# Altium schematic symbol library WE-SHC.SchLib: 139 symbols (part 1 of 3)
Pins are listed as number, name and electrical type; pins without a type are passive.

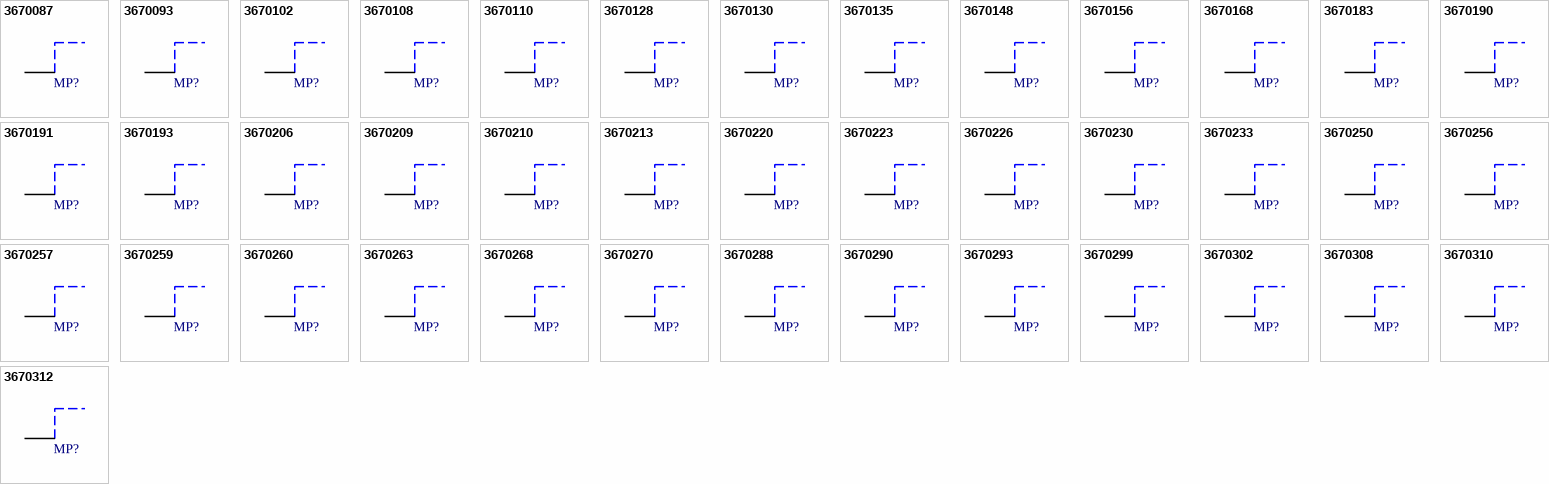
[diagram p0: symbols 3670087 to 3670312]

## 3670087
designator MP?  (value not drawn)
WE-SHC Shielding Cabinet, SMT Frame Seamless, Tin Plated, Tray, 8.7x6.3x3mm; Manufacturer: Wurth Elektronik; Base Material: Steel; ComponentLink1Description: Website Link; ComponentLink1URL: https://www.we-online.com/redexpert/article/3670087?ad; ComponentLink2Description: Datasheet Link; ComponentLink2URL: https://www.we-online.com/redexpert/spec/3670087?ad; Manufacturer Part Number: 3670087; Category: EMC Shielding; Match Code: WE-SHC; Mount: Surface Mount; Operating Temperature Max: 125°C; Operating Temperature Min: -40°C; Packaging: Tray; Length: 8.7mm; Width: 6.3mm; Height: 3mm; Plating: Tin Plated; Type: SMT Frame Seamless
footprint 3670087
pins: 1

## 3670093
designator MP?  (value not drawn)
WE-SHC Shielding Cabinet, SMT Frame Seamless, Tin Plated, Tray, 9.3x9.3x5mm; Manufacturer: Wurth Elektronik; Base Material: Steel; ComponentLink1Description: Website Link; ComponentLink1URL: https://www.we-online.com/redexpert/article/3670093?ad; ComponentLink2Description: Datasheet Link; ComponentLink2URL: https://www.we-online.com/redexpert/spec/3670093?ad; Manufacturer Part Number: 3670093; Category: EMC Shielding; Match Code: WE-SHC; Mount: Surface Mount; Operating Temperature Max: 125°C; Operating Temperature Min: -40°C; Packaging: Tray; Length: 9.3mm; Width: 9.3mm; Height: 5mm; Plating: Tin Plated; Type: SMT Frame Seamless
footprint 3670093
pins: 1

## 3670102
designator MP?  (value not drawn)
WE-SHC Shielding Cabinet, SMT Frame Seamless, Tin Plated, Tray, 10.2x6x3mm; Manufacturer: Wurth Elektronik; Base Material: Steel; ComponentLink1Description: Website Link; ComponentLink1URL: https://www.we-online.com/redexpert/article/3670102?ad; ComponentLink2Description: Datasheet Link; ComponentLink2URL: https://www.we-online.com/redexpert/spec/3670102?ad; Manufacturer Part Number: 3670102; Category: EMC Shielding; Match Code: WE-SHC; Mount: Surface Mount; Operating Temperature Max: 125°C; Operating Temperature Min: -40°C; Packaging: Tray; Length: 10.2mm; Width: 6mm; Height: 3mm; Plating: Tin Plated; Type: SMT Frame Seamless
footprint 3670102
pins: 1

## 3670108
designator MP?  (value not drawn)
WE-SHC Shielding Cabinet, SMT Frame Seamless, Tin Plated, Tray, 10.8x7.4x2mm; Manufacturer: Wurth Elektronik; Base Material: Steel; ComponentLink1Description: Website Link; ComponentLink1URL: https://www.we-online.com/redexpert/article/3670108?ad; ComponentLink2Description: Datasheet Link; ComponentLink2URL: https://www.we-online.com/redexpert/spec/3670108?ad; Manufacturer Part Number: 3670108; Category: EMC Shielding; Match Code: WE-SHC; Mount: Surface Mount; Operating Temperature Max: 125°C; Operating Temperature Min: -40°C; Packaging: Tray; Length: 10.8mm; Width: 7.4mm; Height: 2mm; Plating: Tin Plated; Type: SMT Frame Seamless
footprint 3670108
pins: 1

## 3670110
designator MP?  (value not drawn)
WE-SHC Shielding Cabinet, SMT Frame Seamless, Tin Plated, Tray, 11x11x2.8mm; Manufacturer: Wurth Elektronik; Base Material: Steel; ComponentLink1Description: Website Link; ComponentLink1URL: https://www.we-online.com/redexpert/article/3670110?ad; ComponentLink2Description: Datasheet Link; ComponentLink2URL: https://www.we-online.com/redexpert/spec/3670110?ad; Manufacturer Part Number: 3670110; Category: EMC Shielding; Match Code: WE-SHC; Mount: Surface Mount; Operating Temperature Max: 125°C; Operating Temperature Min: -40°C; Packaging: Tray; Length: 11mm; Width: 11mm; Height: 2.8mm; Plating: Tin Plated; Type: SMT Frame Seamless
footprint 3670110
pins: 1

## 3670128
designator MP?  (value not drawn)
WE-SHC Shielding Cabinet, SMT Frame Seamless, Tin Plated, Tray, 12.8x12.3x7.5mm; Manufacturer: Wurth Elektronik; Base Material: Steel; ComponentLink1Description: Website Link; ComponentLink1URL: https://www.we-online.com/redexpert/article/3670128?ad; ComponentLink2Description: Datasheet Link; ComponentLink2URL: https://www.we-online.com/redexpert/spec/3670128?ad; Manufacturer Part Number: 3670128; Category: EMC Shielding; Match Code: WE-SHC; Mount: Surface Mount; Operating Temperature Max: 125°C; Operating Temperature Min: -40°C; Packaging: Tray; Length: 12.8mm; Width: 12.3mm; Height: 7.5mm; Plating: Tin Plated; Type: SMT Frame Seamless
footprint 3670128
pins: 1

## 3670130
designator MP?  (value not drawn)
WE-SHC Shielding Cabinet, SMT Frame Seamless, Tin Plated, Tray, 13x13x5mm; Manufacturer: Wurth Elektronik; Base Material: Steel; ComponentLink1Description: Website Link; ComponentLink1URL: https://www.we-online.com/redexpert/article/3670130?ad; ComponentLink2Description: Datasheet Link; ComponentLink2URL: https://www.we-online.com/redexpert/spec/3670130?ad; Manufacturer Part Number: 3670130; Category: EMC Shielding; Match Code: WE-SHC; Mount: Surface Mount; Operating Temperature Max: 125°C; Operating Temperature Min: -40°C; Packaging: Tray; Length: 13mm; Width: 13mm; Height: 5mm; Plating: Tin Plated; Type: SMT Frame Seamless
footprint 3670130
pins: 1

## 3670135
designator MP?  (value not drawn)
WE-SHC Shielding Cabinet, SMT Frame Seamless, Tin Plated, Tray, 13.5x13.5x5mm; Manufacturer: Wurth Elektronik; Base Material: Steel; ComponentLink1Description: Website Link; ComponentLink1URL: https://www.we-online.com/redexpert/article/3670135?ad; ComponentLink2Description: Datasheet Link; ComponentLink2URL: https://www.we-online.com/redexpert/spec/3670135?ad; Manufacturer Part Number: 3670135; Category: EMC Shielding; Match Code: WE-SHC; Mount: Surface Mount; Operating Temperature Max: 125°C; Operating Temperature Min: -40°C; Packaging: Tray; Length: 13.5mm; Width: 13.5mm; Height: 5mm; Plating: Tin Plated; Type: SMT Frame Seamless
footprint 3670135
pins: 1

## 3670148
designator MP?  (value not drawn)
WE-SHC Shielding Cabinet, SMT Frame Seamless, Tin Plated, Tray, 14.8x8.9x2mm; Manufacturer: Wurth Elektronik; Base Material: Steel; ComponentLink1Description: Website Link; ComponentLink1URL: https://www.we-online.com/redexpert/article/3670148?ad; ComponentLink2Description: Datasheet Link; ComponentLink2URL: https://www.we-online.com/redexpert/spec/3670148?ad; Manufacturer Part Number: 3670148; Category: EMC Shielding; Match Code: WE-SHC; Mount: Surface Mount; Operating Temperature Max: 125°C; Operating Temperature Min: -40°C; Packaging: Tray; Length: 14.8mm; Width: 8.9mm; Height: 2mm; Plating: Tin Plated; Type: SMT Frame Seamless
footprint 3670148
pins: 1

## 3670156
designator MP?  (value not drawn)
WE-SHC Shielding Cabinet, SMT Frame Seamless, Tin Plated, Tray, 15.6x10.6x3mm; Manufacturer: Wurth Elektronik; Base Material: Steel; ComponentLink1Description: Website Link; ComponentLink1URL: https://www.we-online.com/redexpert/article/3670156?ad; ComponentLink2Description: Datasheet Link; ComponentLink2URL: https://www.we-online.com/redexpert/spec/3670156?ad; Manufacturer Part Number: 3670156; Category: EMC Shielding; Match Code: WE-SHC; Mount: Surface Mount; Operating Temperature Max: 125°C; Operating Temperature Min: -40°C; Packaging: Tray; Length: 15.6mm; Width: 10.6mm; Height: 3mm; Plating: Tin Plated; Type: SMT Frame Seamless
footprint 3670156
pins: 1

## 3670168
designator MP?  (value not drawn)
WE-SHC Shielding Cabinet, SMT Frame Seamless, Tin Plated, Tray, 16.8x13.5x5mm; Manufacturer: Wurth Elektronik; Base Material: Steel; ComponentLink1Description: Website Link; ComponentLink1URL: https://www.we-online.com/redexpert/article/3670168?ad; ComponentLink2Description: Datasheet Link; ComponentLink2URL: https://www.we-online.com/redexpert/spec/3670168?ad; Manufacturer Part Number: 3670168; Category: EMC Shielding; Match Code: WE-SHC; Mount: Surface Mount; Operating Temperature Max: 125°C; Operating Temperature Min: -40°C; Packaging: Tray; Length: 16.8mm; Width: 13.5mm; Height: 5mm; Plating: Tin Plated; Type: SMT Frame Seamless
footprint 3670168
pins: 1

## 3670183
designator MP?  (value not drawn)
WE-SHC Shielding Cabinet, SMT Frame Seamless, Tin Plated, Tray, 18.3x10.5x3mm; Manufacturer: Wurth Elektronik; Base Material: Steel; ComponentLink1Description: Website Link; ComponentLink1URL: https://www.we-online.com/redexpert/article/3670183?ad; ComponentLink2Description: Datasheet Link; ComponentLink2URL: https://www.we-online.com/redexpert/spec/3670183?ad; Manufacturer Part Number: 3670183; Category: EMC Shielding; Match Code: WE-SHC; Mount: Surface Mount; Operating Temperature Max: 125°C; Operating Temperature Min: -40°C; Packaging: Tray; Length: 18.3mm; Width: 10.5mm; Height: 3mm; Plating: Tin Plated; Type: SMT Frame Seamless
footprint 3670183
pins: 1

## 3670190
designator MP?  (value not drawn)
WE-SHC Shielding Cabinet, SMT Frame Seamless, Tin Plated, Tray, 19x13.9x2mm; Manufacturer: Wurth Elektronik; Base Material: Steel; ComponentLink1Description: Website Link; ComponentLink1URL: https://www.we-online.com/redexpert/article/3670190?ad; ComponentLink2Description: Datasheet Link; ComponentLink2URL: https://www.we-online.com/redexpert/spec/3670190?ad; Manufacturer Part Number: 3670190; Category: EMC Shielding; Match Code: WE-SHC; Mount: Surface Mount; Operating Temperature Max: 125°C; Operating Temperature Min: -40°C; Packaging: Tray; Length: 19mm; Width: 13.9mm; Height: 2mm; Plating: Tin Plated; Type: SMT Frame Seamless
footprint 3670190
pins: 1

## 3670191
designator MP?  (value not drawn)
WE-SHC Shielding Cabinet, SMT Frame Seamless, Tin Plated, Tray, 19.1x18.2x5mm; Manufacturer: Wurth Elektronik; Base Material: Steel; ComponentLink1Description: Website Link; ComponentLink1URL: https://www.we-online.com/redexpert/article/3670191?ad; ComponentLink2Description: Datasheet Link; ComponentLink2URL: https://www.we-online.com/redexpert/spec/3670191?ad; Manufacturer Part Number: 3670191; Category: EMC Shielding; Match Code: WE-SHC; Mount: Surface Mount; Operating Temperature Max: 125°C; Operating Temperature Min: -40°C; Packaging: Tray; Length: 19.1mm; Width: 18.2mm; Height: 5mm; Plating: Tin Plated; Type: SMT Frame Seamless
footprint 3670191
pins: 1

## 3670193
designator MP?  (value not drawn)
WE-SHC Shielding Cabinet, SMT Frame Seamless, Tin Plated, Tray, 19.3x10.5x3mm; Manufacturer: Wurth Elektronik; Base Material: Steel; ComponentLink1Description: Website Link; ComponentLink1URL: https://www.we-online.com/redexpert/article/3670193?ad; ComponentLink2Description: Datasheet Link; ComponentLink2URL: https://www.we-online.com/redexpert/spec/3670193?ad; Manufacturer Part Number: 3670193; Category: EMC Shielding; Match Code: WE-SHC; Mount: Surface Mount; Operating Temperature Max: 125°C; Operating Temperature Min: -40°C; Packaging: Tray; Length: 19.3mm; Width: 10.5mm; Height: 3mm; Plating: Tin Plated; Type: SMT Frame Seamless
footprint 3670193
pins: 1

## 3670206
designator MP?  (value not drawn)
WE-SHC Shielding Cabinet, SMT Frame Seamless, Tin Plated, Tray, 20.6x17.8x3mm; Manufacturer: Wurth Elektronik; Base Material: Steel; ComponentLink1Description: Website Link; ComponentLink1URL: https://www.we-online.com/redexpert/article/3670206?ad; ComponentLink2Description: Datasheet Link; ComponentLink2URL: https://www.we-online.com/redexpert/spec/3670206?ad; Manufacturer Part Number: 3670206; Category: EMC Shielding; Match Code: WE-SHC; Mount: Surface Mount; Operating Temperature Max: 125°C; Operating Temperature Min: -40°C; Packaging: Tray; Length: 20.6mm; Width: 17.8mm; Height: 3mm; Plating: Tin Plated; Type: SMT Frame Seamless
footprint 3670206
pins: 1

## 3670209
designator MP?  (value not drawn)
WE-SHC Shielding Cabinet, SMT Frame Seamless, Tin Plated, Tray, 20.9x15.3x1.7mm; Manufacturer: Wurth Elektronik; Base Material: Steel; ComponentLink1Description: Website Link; ComponentLink1URL: https://www.we-online.com/redexpert/article/3670209?ad; ComponentLink2Description: Datasheet Link; ComponentLink2URL: https://www.we-online.com/redexpert/spec/3670209?ad; Manufacturer Part Number: 3670209; Category: EMC Shielding; Match Code: WE-SHC; Mount: Surface Mount; Operating Temperature Max: 125°C; Operating Temperature Min: -40°C; Packaging: Tray; Length: 20.9mm; Width: 15.3mm; Height: 1.7mm; Plating: Tin Plated; Type: SMT Frame Seamless
footprint 3670209
pins: 1

## 3670210
designator MP?  (value not drawn)
WE-SHC Shielding Cabinet, SMT Frame Seamless, Tin Plated, Tray, 21x12x5mm; Manufacturer: Wurth Elektronik; Base Material: Steel; ComponentLink1Description: Website Link; ComponentLink1URL: https://www.we-online.com/redexpert/article/3670210?ad; ComponentLink2Description: Datasheet Link; ComponentLink2URL: https://www.we-online.com/redexpert/spec/3670210?ad; Manufacturer Part Number: 3670210; Category: EMC Shielding; Match Code: WE-SHC; Mount: Surface Mount; Operating Temperature Max: 125°C; Operating Temperature Min: -40°C; Packaging: Tray; Length: 21mm; Width: 12mm; Height: 5mm; Plating: Tin Plated; Type: SMT Frame Seamless
footprint 3670210
pins: 1

## 3670213
designator MP?  (value not drawn)
WE-SHC Shielding Cabinet, SMT Frame Seamless, Tin Plated, Tray, 21.3x19.9x2.9mm; Manufacturer: Wurth Elektronik; Base Material: Steel; ComponentLink1Description: Website Link; ComponentLink1URL: https://www.we-online.com/redexpert/article/3670213?ad; ComponentLink2Description: Datasheet Link; ComponentLink2URL: https://www.we-online.com/redexpert/spec/3670213?ad; Manufacturer Part Number: 3670213; Category: EMC Shielding; Match Code: WE-SHC; Mount: Surface Mount; Operating Temperature Max: 125°C; Operating Temperature Min: -40°C; Packaging: Tray; Length: 21.3mm; Width: 19.9mm; Height: 2.9mm; Plating: Tin Plated; Type: SMT Frame Seamless
footprint 3670213
pins: 1

## 3670220
designator MP?  (value not drawn)
WE-SHC Shielding Cabinet, SMT Frame Seamless, Tin Plated, Tray, 22x19.3x3.3mm; Manufacturer: Wurth Elektronik; Base Material: Steel; ComponentLink1Description: Website Link; ComponentLink1URL: https://www.we-online.com/redexpert/article/3670220?ad; ComponentLink2Description: Datasheet Link; ComponentLink2URL: https://www.we-online.com/redexpert/spec/3670220?ad; Manufacturer Part Number: 3670220; Category: EMC Shielding; Match Code: WE-SHC; Mount: Surface Mount; Operating Temperature Max: 125°C; Operating Temperature Min: -40°C; Packaging: Tray; Length: 22mm; Width: 19.3mm; Height: 3.3mm; Plating: Tin Plated; Type: SMT Frame Seamless
footprint 3670220
pins: 1

## 3670223
designator MP?  (value not drawn)
WE-SHC Shielding Cabinet, SMT Frame Seamless, Tin Plated, Tray, 22.3x17.3x5mm; Manufacturer: Wurth Elektronik; Base Material: Steel; ComponentLink1Description: Website Link; ComponentLink1URL: https://www.we-online.com/redexpert/article/3670223?ad; ComponentLink2Description: Datasheet Link; ComponentLink2URL: https://www.we-online.com/redexpert/spec/3670223?ad; Manufacturer Part Number: 3670223; Category: EMC Shielding; Match Code: WE-SHC; Mount: Surface Mount; Operating Temperature Max: 125°C; Operating Temperature Min: -40°C; Packaging: Tray; Length: 22.3mm; Width: 17.3mm; Height: 5mm; Plating: Tin Plated; Type: SMT Frame Seamless
footprint 3670223
pins: 1

## 3670226
designator MP?  (value not drawn)
WE-SHC Shielding Cabinet, SMT Frame Seamless, Tin Plated, Tray, 22.6x17.1x2mm; Manufacturer: Wurth Elektronik; Base Material: Steel; ComponentLink1Description: Website Link; ComponentLink1URL: https://www.we-online.com/redexpert/article/3670226?ad; ComponentLink2Description: Datasheet Link; ComponentLink2URL: https://www.we-online.com/redexpert/spec/3670226?ad; Manufacturer Part Number: 3670226; Category: EMC Shielding; Match Code: WE-SHC; Mount: Surface Mount; Operating Temperature Max: 125°C; Operating Temperature Min: -40°C; Packaging: Tray; Length: 22.6mm; Width: 17.1mm; Height: 2mm; Plating: Tin Plated; Type: SMT Frame Seamless
footprint 3670226
pins: 1

## 3670230
designator MP?  (value not drawn)
WE-SHC Shielding Cabinet, SMT Frame Seamless, Tin Plated, Tray, 23x11.7x5mm; Manufacturer: Wurth Elektronik; Base Material: Steel; ComponentLink1Description: Website Link; ComponentLink1URL: https://www.we-online.com/redexpert/article/3670230?ad; ComponentLink2Description: Datasheet Link; ComponentLink2URL: https://www.we-online.com/redexpert/spec/3670230?ad; Manufacturer Part Number: 3670230; Category: EMC Shielding; Match Code: WE-SHC; Mount: Surface Mount; Operating Temperature Max: 125°C; Operating Temperature Min: -40°C; Packaging: Tray; Length: 23mm; Width: 11.7mm; Height: 5mm; Plating: Tin Plated; Type: SMT Frame Seamless
footprint 3670230
pins: 1

## 3670233
designator MP?  (value not drawn)
WE-SHC Shielding Cabinet, SMT Frame Seamless, Tin Plated, Tray, 23.3x17.5x5mm; Manufacturer: Wurth Elektronik; Base Material: Steel; ComponentLink1Description: Website Link; ComponentLink1URL: https://www.we-online.com/redexpert/article/3670233?ad; ComponentLink2Description: Datasheet Link; ComponentLink2URL: https://www.we-online.com/redexpert/spec/3670233?ad; Manufacturer Part Number: 3670233; Category: EMC Shielding; Match Code: WE-SHC; Mount: Surface Mount; Operating Temperature Max: 125°C; Operating Temperature Min: -40°C; Packaging: Tray; Length: 23.3mm; Width: 17.5mm; Height: 5mm; Plating: Tin Plated; Type: SMT Frame Seamless
footprint 3670233
pins: 1

## 3670250
designator MP?  (value not drawn)
WE-SHC Shielding Cabinet, SMT Frame Seamless, Tin Plated, Tray, 25x21x4mm; Manufacturer: Wurth Elektronik; Base Material: Steel; ComponentLink1Description: Website Link; ComponentLink1URL: https://www.we-online.com/redexpert/article/3670250?ad; ComponentLink2Description: Datasheet Link; ComponentLink2URL: https://www.we-online.com/redexpert/spec/3670250?ad; Manufacturer Part Number: 3670250; Category: EMC Shielding; Match Code: WE-SHC; Mount: Surface Mount; Operating Temperature Max: 125°C; Operating Temperature Min: -40°C; Packaging: Tray; Length: 25mm; Width: 21mm; Height: 4mm; Plating: Tin Plated; Type: SMT Frame Seamless
footprint 3670250
pins: 1

## 3670256
designator MP?  (value not drawn)
WE-SHC Shielding Cabinet, SMT Frame Seamless, Tin Plated, Tray, 25.6x15.5x2.3mm; Manufacturer: Wurth Elektronik; Base Material: Steel; ComponentLink1Description: Website Link; ComponentLink1URL: https://www.we-online.com/redexpert/article/3670256?ad; ComponentLink2Description: Datasheet Link; ComponentLink2URL: https://www.we-online.com/redexpert/spec/3670256?ad; Manufacturer Part Number: 3670256; Category: EMC Shielding; Match Code: WE-SHC; Mount: Surface Mount; Operating Temperature Max: 125°C; Operating Temperature Min: -40°C; Packaging: Tray; Length: 25.6mm; Width: 15.5mm; Height: 2.3mm; Plating: Tin Plated; Type: SMT Frame Seamless
footprint 3670256
pins: 1

## 3670257
designator MP?  (value not drawn)
WE-SHC Shielding Cabinet, SMT Frame Seamless, Tin Plated, Tray, 25.7x25.7x6.5mm; Manufacturer: Wurth Elektronik; Base Material: Steel; ComponentLink1Description: Website Link; ComponentLink1URL: https://www.we-online.com/redexpert/article/3670257?ad; ComponentLink2Description: Datasheet Link; ComponentLink2URL: https://www.we-online.com/redexpert/spec/3670257?ad; Manufacturer Part Number: 3670257; Category: EMC Shielding; Match Code: WE-SHC; Mount: Surface Mount; Operating Temperature Max: 125°C; Operating Temperature Min: -40°C; Packaging: Tray; Length: 25.7mm; Width: 25.7mm; Height: 6.5mm; Plating: Tin Plated; Type: SMT Frame Seamless
footprint 3670257
pins: 1

## 3670259
designator MP?  (value not drawn)
WE-SHC Shielding Cabinet, SMT Frame Seamless, Tin Plated, Tray, 25.9x25.9x3mm; Manufacturer: Wurth Elektronik; Base Material: Steel; ComponentLink1Description: Website Link; ComponentLink1URL: https://www.we-online.com/redexpert/article/3670259?ad; ComponentLink2Description: Datasheet Link; ComponentLink2URL: https://www.we-online.com/redexpert/spec/3670259?ad; Manufacturer Part Number: 3670259; Category: EMC Shielding; Match Code: WE-SHC; Mount: Surface Mount; Operating Temperature Max: 125°C; Operating Temperature Min: -40°C; Packaging: Tray; Length: 25.9mm; Width: 25.9mm; Height: 3mm; Plating: Tin Plated; Type: SMT Frame Seamless
footprint 3670259
pins: 1

## 3670260
designator MP?  (value not drawn)
WE-SHC Shielding Cabinet, SMT Frame Seamless, Tin Plated, Tray, 26x23x7.8mm; Manufacturer: Wurth Elektronik; Base Material: Steel; ComponentLink1Description: Website Link; ComponentLink1URL: https://www.we-online.com/redexpert/article/3670260?ad; ComponentLink2Description: Datasheet Link; ComponentLink2URL: https://www.we-online.com/redexpert/spec/3670260?ad; Manufacturer Part Number: 3670260; Category: EMC Shielding; Match Code: WE-SHC; Mount: Surface Mount; Operating Temperature Max: 125°C; Operating Temperature Min: -40°C; Packaging: Tray; Length: 26mm; Width: 23mm; Height: 7.8mm; Plating: Tin Plated; Type: SMT Frame Seamless
footprint 3670260
pins: 1

## 3670263
designator MP?  (value not drawn)
WE-SHC Shielding Cabinet, SMT Frame Seamless, Tin Plated, Tray, 26.3x16.8x4.5mm; Manufacturer: Wurth Elektronik; Base Material: Steel; ComponentLink1Description: Website Link; ComponentLink1URL: https://www.we-online.com/redexpert/article/3670263?ad; ComponentLink2Description: Datasheet Link; ComponentLink2URL: https://www.we-online.com/redexpert/spec/3670263?ad; Manufacturer Part Number: 3670263; Category: EMC Shielding; Match Code: WE-SHC; Mount: Surface Mount; Operating Temperature Max: 125°C; Operating Temperature Min: -40°C; Packaging: Tray; Length: 26.3mm; Width: 16.8mm; Height: 4.5mm; Plating: Tin Plated; Type: SMT Frame Seamless
footprint 3670263
pins: 1

## 3670268
designator MP?  (value not drawn)
WE-SHC Shielding Cabinet, SMT Frame Seamless, Tin Plated, Tray, 26.8x15.6x2.5mm; Manufacturer: Wurth Elektronik; Base Material: Steel; ComponentLink1Description: Website Link; ComponentLink1URL: https://www.we-online.com/redexpert/article/3670268?ad; ComponentLink2Description: Datasheet Link; ComponentLink2URL: https://www.we-online.com/redexpert/spec/3670268?ad; Manufacturer Part Number: 3670268; Category: EMC Shielding; Match Code: WE-SHC; Mount: Surface Mount; Operating Temperature Max: 125°C; Operating Temperature Min: -40°C; Packaging: Tray; Length: 26.8mm; Width: 15.6mm; Height: 2.5mm; Plating: Tin Plated; Type: SMT Frame Seamless
footprint 3670268
pins: 1

## 3670270
designator MP?  (value not drawn)
WE-SHC Shielding Cabinet, SMT Frame Seamless, Tin Plated, Tray, 27x20x6mm; Manufacturer: Wurth Elektronik; Base Material: Steel; ComponentLink1Description: Website Link; ComponentLink1URL: https://www.we-online.com/redexpert/article/3670270?ad; ComponentLink2Description: Datasheet Link; ComponentLink2URL: https://www.we-online.com/redexpert/spec/3670270?ad; Manufacturer Part Number: 3670270; Category: EMC Shielding; Match Code: WE-SHC; Mount: Surface Mount; Operating Temperature Max: 125°C; Operating Temperature Min: -40°C; Packaging: Tray; Length: 27mm; Width: 20mm; Height: 6mm; Plating: Tin Plated; Type: SMT Frame Seamless
footprint 3670270
pins: 1

## 3670288
designator MP?  (value not drawn)
WE-SHC Shielding Cabinet, SMT Frame Seamless, Tin Plated, Tray, 28.8x19.4x5mm; Manufacturer: Wurth Elektronik; Base Material: Steel; ComponentLink1Description: Website Link; ComponentLink1URL: https://www.we-online.com/redexpert/article/3670288?ad; ComponentLink2Description: Datasheet Link; ComponentLink2URL: https://www.we-online.com/redexpert/spec/3670288?ad; Manufacturer Part Number: 3670288; Category: EMC Shielding; Match Code: WE-SHC; Mount: Surface Mount; Operating Temperature Max: 125°C; Operating Temperature Min: -40°C; Packaging: Tray; Length: 28.8mm; Width: 19.4mm; Height: 5mm; Plating: Tin Plated; Type: SMT Frame Seamless
footprint 3670288
pins: 1

## 3670290
designator MP?  (value not drawn)
WE-SHC Shielding Cabinet, SMT Frame Seamless, Tin Plated, Tray, 29x26x3mm; Manufacturer: Wurth Elektronik; Base Material: Steel; ComponentLink1Description: Website Link; ComponentLink1URL: https://www.we-online.com/redexpert/article/3670290?ad; ComponentLink2Description: Datasheet Link; ComponentLink2URL: https://www.we-online.com/redexpert/spec/3670290?ad; Manufacturer Part Number: 3670290; Category: EMC Shielding; Match Code: WE-SHC; Mount: Surface Mount; Operating Temperature Max: 125°C; Operating Temperature Min: -40°C; Packaging: Tray; Length: 29mm; Width: 26mm; Height: 3mm; Plating: Tin Plated; Type: SMT Frame Seamless
footprint 3670290
pins: 1

## 3670293
designator MP?  (value not drawn)
WE-SHC Shielding Cabinet, SMT Frame Seamless, Tin Plated, Tray, 29.3x25.3x6.4mm; Manufacturer: Wurth Elektronik; Base Material: Steel; ComponentLink1Description: Website Link; ComponentLink1URL: https://www.we-online.com/redexpert/article/3670293?ad; ComponentLink2Description: Datasheet Link; ComponentLink2URL: https://www.we-online.com/redexpert/spec/3670293?ad; Manufacturer Part Number: 3670293; Category: EMC Shielding; Match Code: WE-SHC; Mount: Surface Mount; Operating Temperature Max: 125°C; Operating Temperature Min: -40°C; Packaging: Tray; Length: 29.3mm; Width: 25.3mm; Height: 6.4mm; Plating: Tin Plated; Type: SMT Frame Seamless
footprint 3670293
pins: 1

## 3670299
designator MP?  (value not drawn)
WE-SHC Shielding Cabinet, SMT Frame Seamless, Tin Plated, Tray, 30x24.4x3.5mm; Manufacturer: Wurth Elektronik; Base Material: Steel; ComponentLink1Description: Website Link; ComponentLink1URL: https://www.we-online.com/redexpert/article/3670299?ad; ComponentLink2Description: Datasheet Link; ComponentLink2URL: https://www.we-online.com/redexpert/spec/3670299?ad; Manufacturer Part Number: 3670299; Category: EMC Shielding; Match Code: WE-SHC; Mount: Surface Mount; Operating Temperature Max: 125°C; Operating Temperature Min: -40°C; Packaging: Tray; Length: 30mm; Width: 24.4mm; Height: 3.5mm; Plating: Tin Plated; Type: SMT Frame Seamless
footprint 3670299
pins: 1

## 3670302
designator MP?  (value not drawn)
WE-SHC Shielding Cabinet, SMT Frame Seamless, Tin Plated, Tray, 30.2x18.9x3mm; Manufacturer: Wurth Elektronik; Base Material: Steel; ComponentLink1Description: Website Link; ComponentLink1URL: https://www.we-online.com/redexpert/article/3670302?ad; ComponentLink2Description: Datasheet Link; ComponentLink2URL: https://www.we-online.com/redexpert/spec/3670302?ad; Manufacturer Part Number: 3670302; Category: EMC Shielding; Match Code: WE-SHC; Mount: Surface Mount; Operating Temperature Max: 125°C; Operating Temperature Min: -40°C; Packaging: Tray; Length: 30.2mm; Width: 18.9mm; Height: 3mm; Plating: Tin Plated; Type: SMT Frame Seamless
footprint 3670302
pins: 1

## 3670308
designator MP?  (value not drawn)
WE-SHC Shielding Cabinet, SMT Frame Seamless, Tin Plated, Tray, 30.8x17.8x4.4mm; Manufacturer: Wurth Elektronik; Base Material: Steel; ComponentLink1Description: Website Link; ComponentLink1URL: https://www.we-online.com/redexpert/article/3670308?ad; ComponentLink2Description: Datasheet Link; ComponentLink2URL: https://www.we-online.com/redexpert/spec/3670308?ad; Manufacturer Part Number: 3670308; Category: EMC Shielding; Match Code: WE-SHC; Mount: Surface Mount; Operating Temperature Max: 125°C; Operating Temperature Min: -40°C; Packaging: Tray; Length: 30.8mm; Width: 17.8mm; Height: 4.4mm; Plating: Tin Plated; Type: SMT Frame Seamless
footprint 3670308
pins: 1

## 3670310
designator MP?  (value not drawn)
WE-SHC Shielding Cabinet, SMT Frame Seamless, Tin Plated, Tray, 31x17.1x3mm; Manufacturer: Wurth Elektronik; Base Material: Steel; ComponentLink1Description: Website Link; ComponentLink1URL: https://www.we-online.com/redexpert/article/3670310?ad; ComponentLink2Description: Datasheet Link; ComponentLink2URL: https://www.we-online.com/redexpert/spec/3670310?ad; Manufacturer Part Number: 3670310; Category: EMC Shielding; Match Code: WE-SHC; Mount: Surface Mount; Operating Temperature Max: 125°C; Operating Temperature Min: -40°C; Packaging: Tray; Length: 31mm; Width: 17.1mm; Height: 3mm; Plating: Tin Plated; Type: SMT Frame Seamless
footprint 3670310
pins: 1

## 3670312
designator MP?  (value not drawn)
WE-SHC Shielding Cabinet, SMT Frame Seamless, Tin Plated, Tray, 31.2x30x5mm; Manufacturer: Wurth Elektronik; Base Material: Steel; ComponentLink1Description: Website Link; ComponentLink1URL: https://www.we-online.com/redexpert/article/3670312?ad; ComponentLink2Description: Datasheet Link; ComponentLink2URL: https://www.we-online.com/redexpert/spec/3670312?ad; Manufacturer Part Number: 3670312; Category: EMC Shielding; Match Code: WE-SHC; Mount: Surface Mount; Operating Temperature Max: 125°C; Operating Temperature Min: -40°C; Packaging: Tray; Length: 31.2mm; Width: 30mm; Height: 5mm; Plating: Tin Plated; Type: SMT Frame Seamless
footprint 3670312
pins: 1

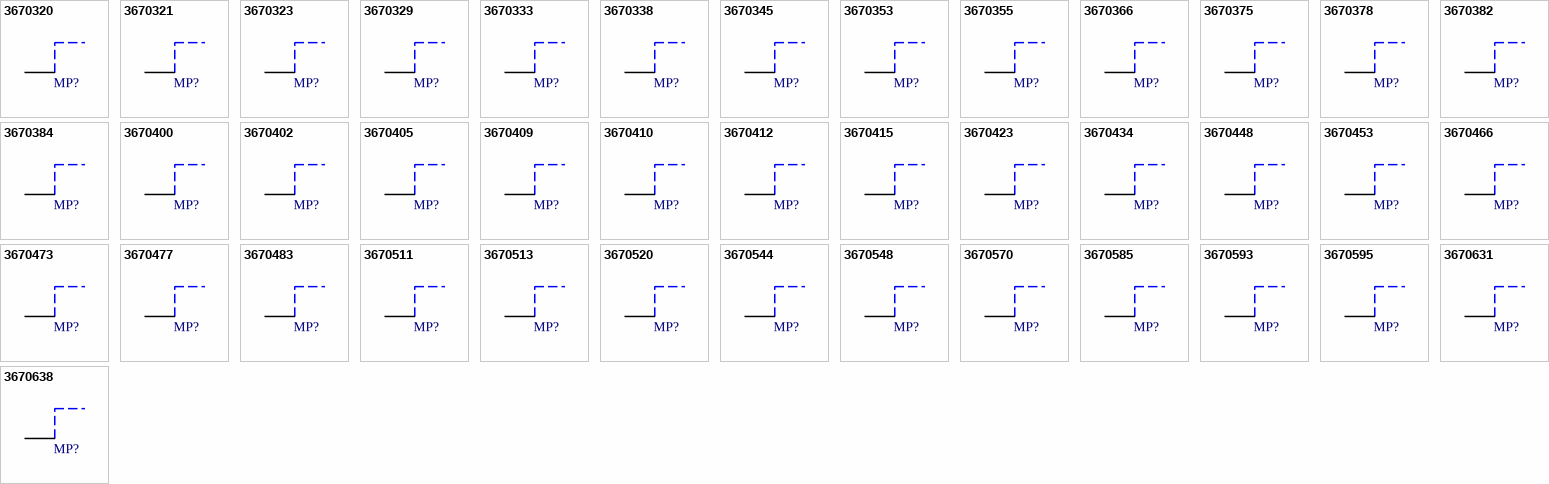
[diagram p1: symbols 3670320 to 3670638]

## 3670320
designator MP?  (value not drawn)
WE-SHC Shielding Cabinet, SMT Frame Seamless, Tin Plated, Tray, 32x11.3x2mm; Manufacturer: Wurth Elektronik; Base Material: Steel; ComponentLink1Description: Website Link; ComponentLink1URL: https://www.we-online.com/redexpert/article/3670320?ad; ComponentLink2Description: Datasheet Link; ComponentLink2URL: https://www.we-online.com/redexpert/spec/3670320?ad; Manufacturer Part Number: 3670320; Category: EMC Shielding; Match Code: WE-SHC; Mount: Surface Mount; Operating Temperature Max: 125°C; Operating Temperature Min: -40°C; Packaging: Tray; Length: 32mm; Width: 11.3mm; Height: 2mm; Plating: Tin Plated; Type: SMT Frame Seamless
footprint 3670320
pins: 1

## 3670321
designator MP?  (value not drawn)
WE-SHC Shielding Cabinet, SMT Frame Seamless, Tin Plated, Tray, 32.1x16.6x2.5mm; Manufacturer: Wurth Elektronik; Base Material: Steel; ComponentLink1Description: Website Link; ComponentLink1URL: https://www.we-online.com/redexpert/article/3670321?ad; ComponentLink2Description: Datasheet Link; ComponentLink2URL: https://www.we-online.com/redexpert/spec/3670321?ad; Manufacturer Part Number: 3670321; Category: EMC Shielding; Match Code: WE-SHC; Mount: Surface Mount; Operating Temperature Max: 125°C; Operating Temperature Min: -40°C; Packaging: Tray; Length: 32.1mm; Width: 16.6mm; Height: 2.5mm; Plating: Tin Plated; Type: SMT Frame Seamless
footprint 3670321
pins: 1

## 3670323
designator MP?  (value not drawn)
WE-SHC Shielding Cabinet, SMT Frame Seamless, Tin Plated, Tray, 32.3x23.8x3.7mm; Manufacturer: Wurth Elektronik; Base Material: Steel; ComponentLink1Description: Website Link; ComponentLink1URL: https://www.we-online.com/redexpert/article/3670323?ad; ComponentLink2Description: Datasheet Link; ComponentLink2URL: https://www.we-online.com/redexpert/spec/3670323?ad; Manufacturer Part Number: 3670323; Category: EMC Shielding; Match Code: WE-SHC; Mount: Surface Mount; Operating Temperature Max: 125°C; Operating Temperature Min: -40°C; Packaging: Tray; Length: 32.3mm; Width: 23.8mm; Height: 3.7mm; Plating: Tin Plated; Type: SMT Frame Seamless
footprint 3670323
pins: 1

## 3670329
designator MP?  (value not drawn)
WE-SHC Shielding Cabinet, SMT Frame Seamless, Tin Plated, Tray, 32.9x20.7x2.5mm; Manufacturer: Wurth Elektronik; Base Material: Steel; ComponentLink1Description: Website Link; ComponentLink1URL: https://www.we-online.com/redexpert/article/3670329?ad; ComponentLink2Description: Datasheet Link; ComponentLink2URL: https://www.we-online.com/redexpert/spec/3670329?ad; Manufacturer Part Number: 3670329; Category: EMC Shielding; Match Code: WE-SHC; Mount: Surface Mount; Operating Temperature Max: 125°C; Operating Temperature Min: -40°C; Packaging: Tray; Length: 32.9mm; Width: 20.7mm; Height: 2.5mm; Plating: Tin Plated; Type: SMT Frame Seamless
footprint 3670329
pins: 1

## 3670333
designator MP?  (value not drawn)
WE-SHC Shielding Cabinet, SMT Frame Seamless, Tin Plated, Tray, 33.3x13.3x4.4mm; Manufacturer: Wurth Elektronik; Base Material: Steel; ComponentLink1Description: Website Link; ComponentLink1URL: https://www.we-online.com/redexpert/article/3670333?ad; ComponentLink2Description: Datasheet Link; ComponentLink2URL: https://www.we-online.com/redexpert/spec/3670333?ad; Manufacturer Part Number: 3670333; Category: EMC Shielding; Match Code: WE-SHC; Mount: Surface Mount; Operating Temperature Max: 125°C; Operating Temperature Min: -40°C; Packaging: Tray; Length: 33.3mm; Width: 13.3mm; Height: 4.4mm; Plating: Tin Plated; Type: SMT Frame Seamless
footprint 3670333
pins: 1

## 3670338
designator MP?  (value not drawn)
WE-SHC Shielding Cabinet, SMT Frame Seamless, Tin Plated, Tray, 33.8x30.3x3.3mm; Manufacturer: Wurth Elektronik; Base Material: Steel; ComponentLink1Description: Website Link; ComponentLink1URL: https://www.we-online.com/redexpert/article/3670338?ad; ComponentLink2Description: Datasheet Link; ComponentLink2URL: https://www.we-online.com/redexpert/spec/3670338?ad; Manufacturer Part Number: 3670338; Category: EMC Shielding; Match Code: WE-SHC; Mount: Surface Mount; Operating Temperature Max: 125°C; Operating Temperature Min: -40°C; Packaging: Tray; Length: 33.8mm; Width: 30.3mm; Height: 3.3mm; Plating: Tin Plated; Type: SMT Frame Seamless
footprint 3670338
pins: 1

## 3670345
designator MP?  (value not drawn)
WE-SHC Shielding Cabinet, SMT Frame Seamless, Tin Plated, Tray, 34.5x23.3x3.5mm; Manufacturer: Wurth Elektronik; Base Material: Steel; ComponentLink1Description: Website Link; ComponentLink1URL: https://www.we-online.com/redexpert/article/3670345?ad; ComponentLink2Description: Datasheet Link; ComponentLink2URL: https://www.we-online.com/redexpert/spec/3670345?ad; Manufacturer Part Number: 3670345; Category: EMC Shielding; Match Code: WE-SHC; Mount: Surface Mount; Operating Temperature Max: 125°C; Operating Temperature Min: -40°C; Packaging: Tray; Length: 34.5mm; Width: 23.3mm; Height: 3.5mm; Plating: Tin Plated; Type: SMT Frame Seamless
footprint 3670345
pins: 1

## 3670353
designator MP?  (value not drawn)
WE-SHC Shielding Cabinet, SMT Frame Seamless, Tin Plated, Tray, 35.3x20x6.4mm; Manufacturer: Wurth Elektronik; Base Material: Steel; ComponentLink1Description: Website Link; ComponentLink1URL: https://www.we-online.com/redexpert/article/3670353?ad; ComponentLink2Description: Datasheet Link; ComponentLink2URL: https://www.we-online.com/redexpert/spec/3670353?ad; Manufacturer Part Number: 3670353; Category: EMC Shielding; Match Code: WE-SHC; Mount: Surface Mount; Operating Temperature Max: 125°C; Operating Temperature Min: -40°C; Packaging: Tray; Length: 35.3mm; Width: 20mm; Height: 6.4mm; Plating: Tin Plated; Type: SMT Frame Seamless
footprint 3670353
pins: 1

## 3670355
designator MP?  (value not drawn)
WE-SHC Shielding Cabinet, SMT Frame Seamless, Tin Plated, Tray, 35.5x19x5.5mm; Manufacturer: Wurth Elektronik; Base Material: Steel; ComponentLink1Description: Website Link; ComponentLink1URL: https://www.we-online.com/redexpert/article/3670355?ad; ComponentLink2Description: Datasheet Link; ComponentLink2URL: https://www.we-online.com/redexpert/spec/3670355?ad; Manufacturer Part Number: 3670355; Category: EMC Shielding; Match Code: WE-SHC; Mount: Surface Mount; Operating Temperature Max: 125°C; Operating Temperature Min: -40°C; Packaging: Tray; Length: 35.5mm; Width: 19mm; Height: 5.5mm; Plating: Tin Plated; Type: SMT Frame Seamless
footprint 3670355
pins: 1

## 3670366
designator MP?  (value not drawn)
WE-SHC Shielding Cabinet, SMT Frame Seamless, Tin Plated, Tray, 36.6x34.1x3.3mm; Manufacturer: Wurth Elektronik; Base Material: Steel; ComponentLink1Description: Website Link; ComponentLink1URL: https://www.we-online.com/redexpert/article/3670366?ad; ComponentLink2Description: Datasheet Link; ComponentLink2URL: https://www.we-online.com/redexpert/spec/3670366?ad; Manufacturer Part Number: 3670366; Category: EMC Shielding; Match Code: WE-SHC; Mount: Surface Mount; Operating Temperature Max: 125°C; Operating Temperature Min: -40°C; Packaging: Tray; Length: 36.6mm; Width: 34.1mm; Height: 3.3mm; Plating: Tin Plated; Type: SMT Frame Seamless
footprint 3670366
pins: 1

## 3670375
designator MP?  (value not drawn)
WE-SHC Shielding Cabinet, SMT Frame Seamless, Tin Plated, Tray, 37.5x29.3x6.5mm; Manufacturer: Wurth Elektronik; Base Material: Steel; ComponentLink1Description: Website Link; ComponentLink1URL: https://www.we-online.com/redexpert/article/3670375?ad; ComponentLink2Description: Datasheet Link; ComponentLink2URL: https://www.we-online.com/redexpert/spec/3670375?ad; Manufacturer Part Number: 3670375; Category: EMC Shielding; Match Code: WE-SHC; Mount: Surface Mount; Operating Temperature Max: 125°C; Operating Temperature Min: -40°C; Packaging: Tray; Length: 37.5mm; Width: 29.3mm; Height: 6.5mm; Plating: Tin Plated; Type: SMT Frame Seamless
footprint 3670375
pins: 1

## 3670378
designator MP?  (value not drawn)
WE-SHC Shielding Cabinet, SMT Frame Seamless, Tin Plated, Tray, 37.8x21.6x3mm; Manufacturer: Wurth Elektronik; Base Material: Steel; ComponentLink1Description: Website Link; ComponentLink1URL: https://www.we-online.com/redexpert/article/3670378?ad; ComponentLink2Description: Datasheet Link; ComponentLink2URL: https://www.we-online.com/redexpert/spec/3670378?ad; Manufacturer Part Number: 3670378; Category: EMC Shielding; Match Code: WE-SHC; Mount: Surface Mount; Operating Temperature Max: 125°C; Operating Temperature Min: -40°C; Packaging: Tray; Length: 37.8mm; Width: 21.6mm; Height: 3mm; Plating: Tin Plated; Type: SMT Frame Seamless
footprint 3670378
pins: 1

## 3670382
designator MP?  (value not drawn)
WE-SHC Shielding Cabinet, SMT Frame Seamless, Tin Plated, Tray, 38.2x33.3x5mm; Manufacturer: Wurth Elektronik; Base Material: Steel; ComponentLink1Description: Website Link; ComponentLink1URL: https://www.we-online.com/redexpert/article/3670382?ad; ComponentLink2Description: Datasheet Link; ComponentLink2URL: https://www.we-online.com/redexpert/spec/3670382?ad; Manufacturer Part Number: 3670382; Category: EMC Shielding; Match Code: WE-SHC; Mount: Surface Mount; Operating Temperature Max: 125°C; Operating Temperature Min: -40°C; Packaging: Tray; Length: 38.2mm; Width: 33.3mm; Height: 5mm; Plating: Tin Plated; Type: SMT Frame Seamless
footprint 3670382
pins: 1

## 3670384
designator MP?  (value not drawn)
WE-SHC Shielding Cabinet, SMT Frame Seamless, Tin Plated, Tray, 38.4x37.6x11mm; Manufacturer: Wurth Elektronik; Base Material: Steel; ComponentLink1Description: Website Link; ComponentLink1URL: https://www.we-online.com/redexpert/article/3670384?ad; ComponentLink2Description: Datasheet Link; ComponentLink2URL: https://www.we-online.com/redexpert/spec/3670384?ad; Manufacturer Part Number: 3670384; Category: EMC Shielding; Match Code: WE-SHC; Mount: Surface Mount; Operating Temperature Max: 125°C; Operating Temperature Min: -40°C; Packaging: Tray; Length: 38.4mm; Width: 37.6mm; Height: 11mm; Plating: Tin Plated; Type: SMT Frame Seamless
footprint 3670384
pins: 1

## 3670400
designator MP?  (value not drawn)
WE-SHC Shielding Cabinet, SMT Frame Seamless, Tin Plated, Tray, 40x18.3x4mm; Manufacturer: Wurth Elektronik; Base Material: Steel; ComponentLink1Description: Website Link; ComponentLink1URL: https://www.we-online.com/redexpert/article/3670400?ad; ComponentLink2Description: Datasheet Link; ComponentLink2URL: https://www.we-online.com/redexpert/spec/3670400?ad; Manufacturer Part Number: 3670400; Category: EMC Shielding; Match Code: WE-SHC; Mount: Surface Mount; Operating Temperature Max: 125°C; Operating Temperature Min: -40°C; Packaging: Tray; Length: 40mm; Width: 18.3mm; Height: 4mm; Plating: Tin Plated; Type: SMT Frame Seamless
footprint 3670400
pins: 1

## 3670402
designator MP?  (value not drawn)
WE-SHC Shielding Cabinet, SMT Frame Seamless, Tin Plated, Tray, 40.2x34.6x5.3mm; Manufacturer: Wurth Elektronik; Base Material: Steel; ComponentLink1Description: Website Link; ComponentLink1URL: https://www.we-online.com/redexpert/article/3670402?ad; ComponentLink2Description: Datasheet Link; ComponentLink2URL: https://www.we-online.com/redexpert/spec/3670402?ad; Manufacturer Part Number: 3670402; Category: EMC Shielding; Match Code: WE-SHC; Mount: Surface Mount; Operating Temperature Max: 125°C; Operating Temperature Min: -40°C; Packaging: Tray; Length: 40.2mm; Width: 34.6mm; Height: 5.3mm; Plating: Tin Plated; Type: SMT Frame Seamless
footprint 3670402
pins: 1

## 3670405
designator MP?  (value not drawn)
WE-SHC Shielding Cabinet, SMT Frame Seamless, Tin Plated, Tray, 40.5x18.9x2.8mm; Manufacturer: Wurth Elektronik; Base Material: Steel; ComponentLink1Description: Website Link; ComponentLink1URL: https://www.we-online.com/redexpert/article/3670405?ad; ComponentLink2Description: Datasheet Link; ComponentLink2URL: https://www.we-online.com/redexpert/spec/3670405?ad; Manufacturer Part Number: 3670405; Category: EMC Shielding; Match Code: WE-SHC; Mount: Surface Mount; Operating Temperature Max: 125°C; Operating Temperature Min: -40°C; Packaging: Tray; Length: 40.5mm; Width: 18.9mm; Height: 2.8mm; Plating: Tin Plated; Type: SMT Frame Seamless
footprint 3670405
pins: 1

## 3670409
designator MP?  (value not drawn)
WE-SHC Shielding Cabinet, SMT Frame Seamless, Tin Plated, Tray, 40.9x21.5x2.5mm; Manufacturer: Wurth Elektronik; Base Material: Steel; ComponentLink1Description: Website Link; ComponentLink1URL: https://www.we-online.com/redexpert/article/3670409?ad; ComponentLink2Description: Datasheet Link; ComponentLink2URL: https://www.we-online.com/redexpert/spec/3670409?ad; Manufacturer Part Number: 3670409; Category: EMC Shielding; Match Code: WE-SHC; Mount: Surface Mount; Operating Temperature Max: 125°C; Operating Temperature Min: -40°C; Packaging: Tray; Length: 40.9mm; Width: 21.5mm; Height: 2.5mm; Plating: Tin Plated; Type: SMT Frame Seamless
footprint 3670409
pins: 1

## 3670410
designator MP?  (value not drawn)
WE-SHC Shielding Cabinet, SMT Frame Seamless, Tin Plated, Tray, 41x26.4x3.7mm; Manufacturer: Wurth Elektronik; Base Material: Steel; ComponentLink1Description: Website Link; ComponentLink1URL: https://www.we-online.com/redexpert/article/3670410?ad; ComponentLink2Description: Datasheet Link; ComponentLink2URL: https://www.we-online.com/redexpert/spec/3670410?ad; Manufacturer Part Number: 3670410; Category: EMC Shielding; Match Code: WE-SHC; Mount: Surface Mount; Operating Temperature Max: 125°C; Operating Temperature Min: -40°C; Packaging: Tray; Length: 41mm; Width: 26.4mm; Height: 3.7mm; Plating: Tin Plated; Type: SMT Frame Seamless
footprint 3670410
pins: 1

## 3670412
designator MP?  (value not drawn)
WE-SHC Shielding Cabinet, SMT Frame Seamless, Tin Plated, Tray, 41.2x13.6x5.1mm; Manufacturer: Wurth Elektronik; Base Material: Steel; ComponentLink1Description: Website Link; ComponentLink1URL: https://www.we-online.com/redexpert/article/3670412?ad; ComponentLink2Description: Datasheet Link; ComponentLink2URL: https://www.we-online.com/redexpert/spec/3670412?ad; Manufacturer Part Number: 3670412; Category: EMC Shielding; Match Code: WE-SHC; Mount: Surface Mount; Operating Temperature Max: 125°C; Operating Temperature Min: -40°C; Packaging: Tray; Length: 41.2mm; Width: 13.6mm; Height: 5.1mm; Plating: Tin Plated; Type: SMT Frame Seamless
footprint 3670412
pins: 1

## 3670415
designator MP?  (value not drawn)
WE-SHC Shielding Cabinet, SMT Frame Seamless, Tin Plated, Tray, 41.5x16.8x6.8mm; Manufacturer: Wurth Elektronik; Base Material: Steel; ComponentLink1Description: Website Link; ComponentLink1URL: https://www.we-online.com/redexpert/article/3670415?ad; ComponentLink2Description: Datasheet Link; ComponentLink2URL: https://www.we-online.com/redexpert/spec/3670415?ad; Manufacturer Part Number: 3670415; Category: EMC Shielding; Match Code: WE-SHC; Mount: Surface Mount; Operating Temperature Max: 125°C; Operating Temperature Min: -40°C; Packaging: Tray; Length: 41.5mm; Width: 16.8mm; Height: 6.8mm; Plating: Tin Plated; Type: SMT Frame Seamless
footprint 3670415
pins: 1

## 3670423
designator MP?  (value not drawn)
WE-SHC Shielding Cabinet, SMT Frame Seamless, Tin Plated, Tray, 42.3x15.3x4.4mm; Manufacturer: Wurth Elektronik; Base Material: Steel; ComponentLink1Description: Website Link; ComponentLink1URL: https://www.we-online.com/redexpert/article/3670423?ad; ComponentLink2Description: Datasheet Link; ComponentLink2URL: https://www.we-online.com/redexpert/spec/3670423?ad; Manufacturer Part Number: 3670423; Category: EMC Shielding; Match Code: WE-SHC; Mount: Surface Mount; Operating Temperature Max: 125°C; Operating Temperature Min: -40°C; Packaging: Tray; Length: 42.3mm; Width: 15.3mm; Height: 4.4mm; Plating: Tin Plated; Type: SMT Frame Seamless
footprint 3670423
pins: 1

## 3670434
designator MP?  (value not drawn)
WE-SHC Shielding Cabinet, SMT Frame Seamless, Tin Plated, Tray, 43.4x28.4x3.3mm; Manufacturer: Wurth Elektronik; Base Material: Steel; ComponentLink1Description: Website Link; ComponentLink1URL: https://www.we-online.com/redexpert/article/3670434?ad; ComponentLink2Description: Datasheet Link; ComponentLink2URL: https://www.we-online.com/redexpert/spec/3670434?ad; Manufacturer Part Number: 3670434; Category: EMC Shielding; Match Code: WE-SHC; Mount: Surface Mount; Operating Temperature Max: 125°C; Operating Temperature Min: -40°C; Packaging: Tray; Length: 43.4mm; Width: 28.4mm; Height: 3.3mm; Plating: Tin Plated; Type: SMT Frame Seamless
footprint 3670434
pins: 1

## 3670448
designator MP?  (value not drawn)
WE-SHC Shielding Cabinet, SMT Frame Seamless, Tin Plated, Tray, 44.8x18.2x3mm; Manufacturer: Wurth Elektronik; Base Material: Steel; ComponentLink1Description: Website Link; ComponentLink1URL: https://www.we-online.com/redexpert/article/3670448?ad; ComponentLink2Description: Datasheet Link; ComponentLink2URL: https://www.we-online.com/redexpert/spec/3670448?ad; Manufacturer Part Number: 3670448; Category: EMC Shielding; Match Code: WE-SHC; Mount: Surface Mount; Operating Temperature Max: 125°C; Operating Temperature Min: -40°C; Packaging: Tray; Length: 44.8mm; Width: 18.2mm; Height: 3mm; Plating: Tin Plated; Type: SMT Frame Seamless
footprint 3670448
pins: 1

## 3670453
designator MP?  (value not drawn)
WE-SHC Shielding Cabinet, SMT Frame Seamless, Tin Plated, Tray, 45.3x16.2x6mm; Manufacturer: Wurth Elektronik; Base Material: Steel; ComponentLink1Description: Website Link; ComponentLink1URL: https://www.we-online.com/redexpert/article/3670453?ad; ComponentLink2Description: Datasheet Link; ComponentLink2URL: https://www.we-online.com/redexpert/spec/3670453?ad; Manufacturer Part Number: 3670453; Category: EMC Shielding; Match Code: WE-SHC; Mount: Surface Mount; Operating Temperature Max: 125°C; Operating Temperature Min: -40°C; Packaging: Tray; Length: 45.3mm; Width: 16.2mm; Height: 6mm; Plating: Tin Plated; Type: SMT Frame Seamless
footprint 3670453
pins: 1

## 3670466
designator MP?  (value not drawn)
WE-SHC Shielding Cabinet, SMT Frame Seamless, Tin Plated, Tray, 46.6x17.3x5mm; Manufacturer: Wurth Elektronik; Base Material: Steel; ComponentLink1Description: Website Link; ComponentLink1URL: https://www.we-online.com/redexpert/article/3670466?ad; ComponentLink2Description: Datasheet Link; ComponentLink2URL: https://www.we-online.com/redexpert/spec/3670466?ad; Manufacturer Part Number: 3670466; Category: EMC Shielding; Match Code: WE-SHC; Mount: Surface Mount; Operating Temperature Max: 125°C; Operating Temperature Min: -40°C; Packaging: Tray; Length: 46.6mm; Width: 17.3mm; Height: 5mm; Plating: Tin Plated; Type: SMT Frame Seamless
footprint 3670466
pins: 1

## 3670473
designator MP?  (value not drawn)
WE-SHC Shielding Cabinet, SMT Frame Seamless, Tin Plated, Tray, 47.3x23.3x5.3mm; Manufacturer: Wurth Elektronik; Base Material: Steel; ComponentLink1Description: Website Link; ComponentLink1URL: https://www.we-online.com/redexpert/article/3670473?ad; ComponentLink2Description: Datasheet Link; ComponentLink2URL: https://www.we-online.com/redexpert/spec/3670473?ad; Manufacturer Part Number: 3670473; Category: EMC Shielding; Match Code: WE-SHC; Mount: Surface Mount; Operating Temperature Max: 125°C; Operating Temperature Min: -40°C; Packaging: Tray; Length: 47.3mm; Width: 23.3mm; Height: 5.3mm; Plating: Tin Plated; Type: SMT Frame Seamless
footprint 3670473
pins: 1

## 3670477
designator MP?  (value not drawn)
WE-SHC Shielding Cabinet, SMT Frame Seamless, Tin Plated, Tray, 47.7x18.2x4mm; Manufacturer: Wurth Elektronik; Base Material: Steel; ComponentLink1Description: Website Link; ComponentLink1URL: https://www.we-online.com/redexpert/article/3670477?ad; ComponentLink2Description: Datasheet Link; ComponentLink2URL: https://www.we-online.com/redexpert/spec/3670477?ad; Manufacturer Part Number: 3670477; Category: EMC Shielding; Match Code: WE-SHC; Mount: Surface Mount; Operating Temperature Max: 125°C; Operating Temperature Min: -40°C; Packaging: Tray; Length: 47.7mm; Width: 18.2mm; Height: 4mm; Plating: Tin Plated; Type: SMT Frame Seamless
footprint 3670477
pins: 1

## 3670483
designator MP?  (value not drawn)
WE-SHC Shielding Cabinet, SMT Frame Seamless, Tin Plated, Tray, 48.3x44.3x4.4mm; Manufacturer: Wurth Elektronik; Base Material: Steel; ComponentLink1Description: Website Link; ComponentLink1URL: https://www.we-online.com/redexpert/article/3670483?ad; ComponentLink2Description: Datasheet Link; ComponentLink2URL: https://www.we-online.com/redexpert/spec/3670483?ad; Manufacturer Part Number: 3670483; Category: EMC Shielding; Match Code: WE-SHC; Mount: Surface Mount; Operating Temperature Max: 125°C; Operating Temperature Min: -40°C; Packaging: Tray; Length: 48.3mm; Width: 44.3mm; Height: 4.4mm; Plating: Tin Plated; Type: SMT Frame Seamless
footprint 3670483
pins: 1